# Altium footprint library BUZZER.PcbLib: 1 footprints
Each footprint in its own frame and in the unit in brackets; x right, y up, seen from the top. Pads: shape width x height; smd on the part's side, far side on the other; paste and mask are expansions set on the pad; w line width, h text height; cw(c..) or ccw(c..) is an arc to the next point about the centre after c.
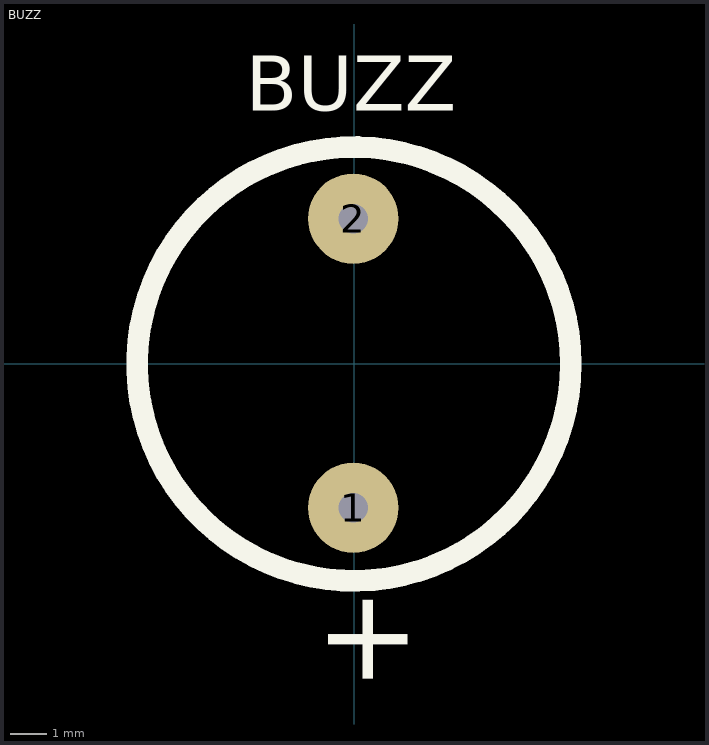
[diagram p0: the footprint, top view; thin cyan lines are the x and y axes]

## BUZZ [mm]
pads (2):
  round 2.5 hole 0.813: 1(-0.02,-3.98) 2(-0.02,4.02)
Top Overlay:
  circle w0.6: c0,0 r6
  text "+" at 1.48,-9.08 h2.54
  text "BUZZ" at -3,7 h1.52